# Altium schematic symbol library conn1.SchLib: 1 symbol
Pins are listed as number, name and electrical type; pins without a type are passive.

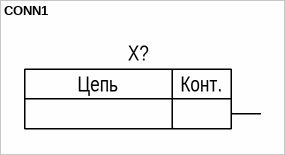
[diagram p0: symbol CONN1]

## CONN1
designator X?
pins: 1
text: Цепь; Конт.